# Altium schematic symbol library BH_CR2032.Schlib: 1 symbol
Pins are listed as number, name and electrical type; pins without a type are passive.

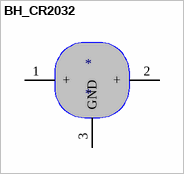
[diagram p0: symbol BH_CR2032]

## BH_CR2032
designator *
pins: 1 +, 2 +, 3 GND